# Altium schematic symbol library SD_Card.SchLib: 1 symbol
Pins are listed as number, name and electrical type; pins without a type are passive.

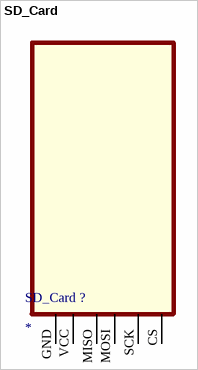
[diagram p0: symbol SD_Card]

## SD_Card
designator SD_Card ?
footprint SD_Card
pins: CS, GND (power), MISO, MOSI, SCK, VCC (power)